# Altium footprint library ANT_1001312_2.00X1.20MM.PcbLib: 1 footprints
Each footprint in its own frame and in the unit in brackets; x right, y up, seen from the top. Pads: shape width x height; smd on the part's side, far side on the other; paste and mask are expansions set on the pad; w line width, h text height; cw(c..) or ccw(c..) is an arc to the next point about the centre after c.
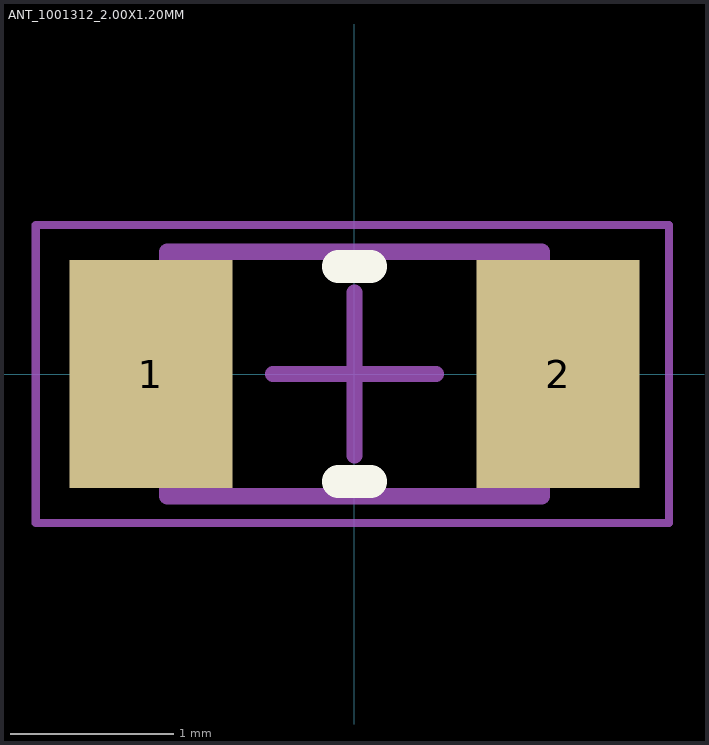
[diagram p0: the footprint, top view; thin cyan lines are the x and y axes]

## ANT_1001312_2.00X1.20MM [mm] "Embedded 2.4GHz ANTENNA, Part No. 1001312, 2-Leads, Body 2.00x1.20mm"
height 0.75
pads (2):
  rect 1x1.4 smd: 1(-1.25,0) 2(1.25,0)
Top Overlay:
  lines w0.2: -0.1,-0.66 0.1,-0.66 ; -0.1,0.66 0.1,0.66
Mechanical 13:
  lines w0.1: -1.15,-0.75 -1.15,0.75 1.15,0.75 1.15,-0.75 -1.15,-0.75
Mechanical 15:
  lines w0.05: -1.956,-0.914 -1.956,0.914 1.93,0.914 1.93,-0.914 -1.956,-0.914
  lines w0.1: -0.5,0 0.5,0 ; 0,-0.5 0,0.5
Mechanical 17:
  text "'.Designator'" at -1.6,0.025 h0.25
Mechanical 19:
  text "'.Comment'" at -1.27,0 h0.25
3D body: height 0.75, standoff 0, extent -0.75,-0.75 0.75,0.75
3D body: height 0.75, standoff 0, extent -1.15,-0.75 -0.75,0.75
3D body: height 0.75, standoff 0, extent 0.75,-0.75 1.15,0.75